# Altium schematic symbol library Conn_JST_SM04B-SRSS-TB_eec.SchLib: 1 symbol
Pins are listed as number, name and electrical type; pins without a type are passive.

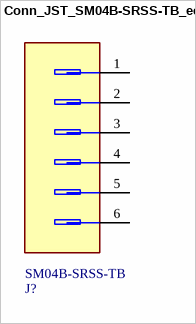
[diagram p0: symbol Conn_JST_SM04B-SRSS-TB_eec]

## Conn_JST_SM04B-SRSS-TB_eec
designator J?  Part Number: SM04B-SRSS-TB
CONN HEADER SH 4POS SIDE 1MM TIN; Manufacturer: JST; helpURL: https://upverter.com/upn/revision/f5dec154e1ea3f80/; ComponentLink2Description: Datasheet; Temperature: -25°C to +85°C; Package: CONN_SMT_6MM0_4MM25; Supplier 2: Mouser; Supplier 1: Digi-Key; ComponentLink1URL: https://upverter.com/upn/revision/f5dec154e1ea3f80/; Supplier Part Number 1: 455-1422-1-ND; ComponentLink1Description: Upverter; ComponentLink2URL: http://www.jst-mfg.com/product/pdf/eng/eSH.pdf; RoHS: TRUE; Digikey Description: CONN HEADER SH 4POS SIDE 1MM TIN; Digikey Part Number: 455-1422-1-ND; Lead Free: Yes; Temperature Range Low: -25°C; Temperature Range High: +85°C
footprint JST_SM04B-SRSS-TB_0
pins: 1, 2, 3, 4, 5 MNT 1, 6 MNT 2